# EAGLE library part 615008137421 (library 615008185221_Eagle_WR-MJ_rev20b)
WR-MJ Modular Jack Tab Up KIND PROPERTIES Quality Class:750 Mating cycles LED:2xBipolar Y/G; yellow-green General Information Operating Temperature:-40 up to +85 °C Compliance:RoHS Electrical Properties IR1:1.5A Working Voltage:-40 V (AC); 120 V (AC) Withstanding Voltage:1000V (AC) Contact Resistance:20mΩ RISO:500 MΩ Material Properties Insulator MateriaL:PBT Insulator Flammability Rating:UL94 V-0 Color:Black Contact Material:Copper Alloy Contact Plating:Selective Gold Contact Type:Stamped Shielding Material:Bronze Shielding Plating:Nickel Packaging Properties Packaging:Tray <https://www.we-online.com/catalog/media/o33152v209%20Family_WR-MJ_6150081xxx21.jpg> Details see: https://www.we-online.com/catalog/en/MJ_HORIZONTAL_SHIELDED_W_LED_AND_EMI_PANEL_FINGER_8P8C_TAB_UP/ Updated by Yingchun,Shan 2019-11-26 2019 (C) Würth Elektronik
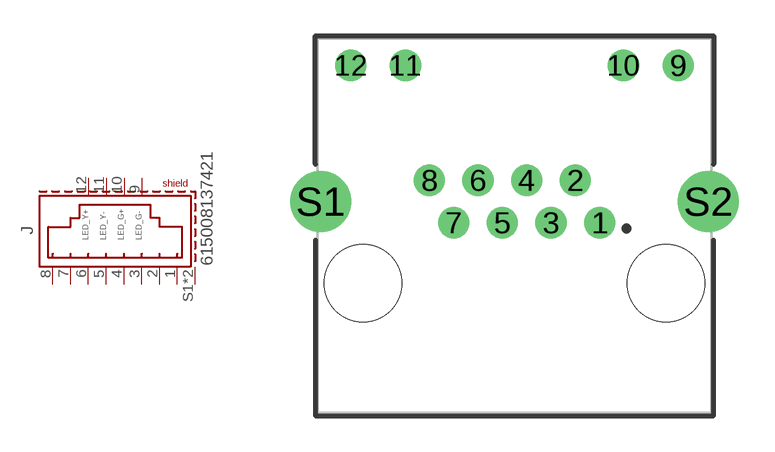
[diagram p60: symbol with the pads of 615008137421; footprint 615008137421]

Designator prefix J

## 615008137421 (DATASHEET-URL: https://www.we-online.com/catalog/datasheet/615008137421.pdf; LED: yellow-green; MOUNT: THT; PART-NUMBER: 615008137421; TYPE: Horizontal; VALUE: 615008137421; XPXC: 8P8C)  [615008137421]
1  1  pas
2  2  pas
3  3  pas
4  4  pas
5  5  pas
6  6  pas
7  7  pas
8  8  pas
9  G-  pas
10  G+  pas
11  Y-  pas
12  Y+  pas
S1  SHIELD  pas
S2  SHIELD  pas

## Footprint 615008137421 (pad centres in mm)
WR-MJ Modular Jack Tab Up,8Pins
drill 0.8: 1 3.57,0.125; 2 2.55,1.905; 3 1.53,0.125; 4 0.51,1.905; 5 -0.51,0.125; 6 -1.53,1.905; 7 -2.55,0.125; 8 -3.57,1.905; 9 6.86,6.725; 10 4.57,6.725; 11 -4.57,6.725; 12 -6.86,6.725
drill 1.7: S1 -8.125,1.015; S2 8.125,1.015
hole 3.25 at -6.35,-2.415
hole 3.25 at 6.35,-2.415